# Altium footprint library Transistor.PcbLib: 3 footprints
Each footprint in its own frame and in the unit in brackets; x right, y up, seen from the top. Pads: shape width x height; smd on the part's side, far side on the other; paste and mask are expansions set on the pad; w line width, h text height; cw(c..) or ccw(c..) is an arc to the next point about the centre after c.
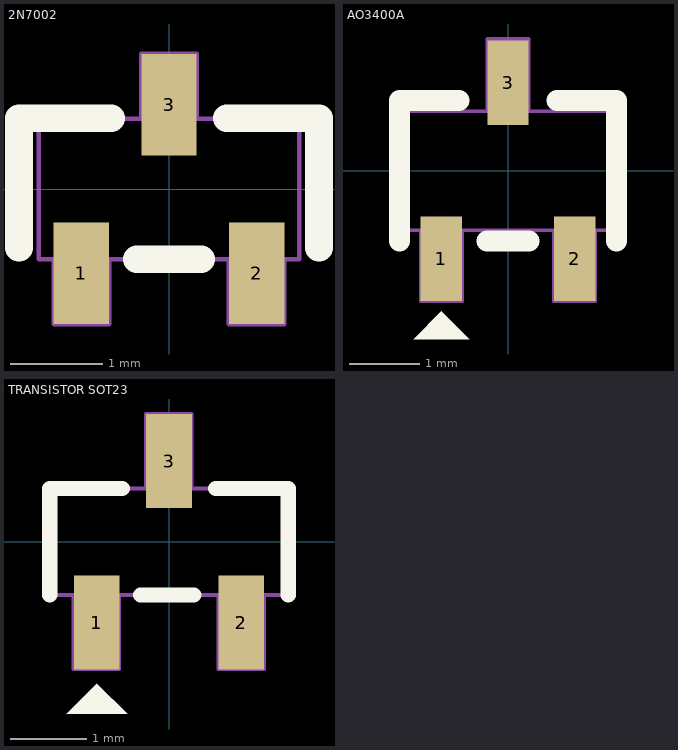
[diagram p0: the footprints below, top view; thin cyan lines are the x and y axes]

## 2N7002 [mm]
height 1.25
pads (3):
  rect 0.6x1.1 smd mask+0.07: 1(-0.95,-0.915) 2(0.95,-0.915) 3(0,0.915)
Top Overlay:
  lines w0.3: -1.625,-0.635 -1.625,0.765 -0.625,0.765 ; -0.35,-0.76 0.35,-0.76 ; 0.625,0.765 1.625,0.765 1.625,-0.635
Top HCB:
  lines w0.05: -1.25,-0.763 -1.25,-1.465 -0.65,-1.465 -0.65,-0.763 ; -0.3,0.763 -0.3,1.465 0.3,1.465 0.3,0.763 ; 0.65,-0.763 0.65,-1.465 1.25,-1.465 1.25,-0.763 ; -1.413,-0.763 -1.413,0.763 1.413,0.763 1.413,-0.763 -1.413,-0.763
  text "G" at -1.148,-0.151 h0.5
  text "D" at -0.132,-0.151 h0.5
  text "S" at 0.873,-0.151 h0.5
3D body "User Library-SOT23-3.STEP": height 1.3, standoff 0, extent -1.45,-1.4 1.45,1.4

## AO3400A [mm]
height 1.3
pads (3):
  rect 0.59x1.21 smd: 1(-0.95,-1.255) 2(0.95,-1.255) 3(0,1.255)
Top Overlay:
  region: -0.95,-2.005 -1.345,-2.4 -0.555,-2.4
  lines w0.3: -1.55,-1 -1.55,1 -0.7,1 ; -0.3,-1 0.3,-1 ; 0.7,1 1.55,1 1.55,-1
Top HCB:
  lines w0.05: -1.245,-0.85 -1.245,-1.86 -0.655,-1.86 -0.655,-0.85 ; -0.295,0.87 -0.295,1.88 0.295,1.88 0.295,0.87 ; 0.655,-0.85 0.655,-1.86 1.245,-1.86 1.245,-0.85 ; -1.55,-0.85 -1.55,0.85 1.55,0.85 1.55,-0.85 -1.55,-0.85
  text "G" at -1.297,-0.785 h1
  text "S" at 0.643,-0.785 h1
  text "D" at -0.301,-0.049 h1

## TRANSISTOR SOT23 [mm] "TRANS NPN SOT23"
height 1.1
pads (3):
  rect 0.6x1.23 smd: 1(-0.95,-1.06) 2(0.95,-1.06) 3(0,1.06)
Top Overlay:
  region: -0.95,-1.86 -1.35,-2.26 -0.55,-2.26
  lines w0.2: -1.564,-0.7 -1.564,0.7 -0.614,0.7 ; -0.375,-0.7 0.325,-0.7 ; 0.614,0.7 1.564,0.7 1.564,-0.7
Top HCB:
  lines w0.05: -0.652,-0.7 -0.652,-1.673 -1.252,-1.673 -1.252,-0.7 ; -0.302,0.7 -0.302,1.677 0.298,1.677 0.298,0.7 ; 0.648,-0.7 0.648,-1.673 1.248,-1.673 1.248,-0.7 ; -1.252,-0.7 -1.52,-0.7 -1.52,0.7 1.52,0.7 1.52,-0.7 -1.252,-0.7
  text "B" at -1.102,-0.223 h0.5
  text "E" at 0.823,-0.223 h0.5
  text "C" at -0.139,-0.223 h0.5
3D body "Diode_Micro_Commercial_Co_ESDA6V1L-TP_eec.STEP": height 0.25, standoff 0, extent -1.96,-2.372 1.96,2.372